# EAGLE library part C64_CARTDRIGE (library commodore)
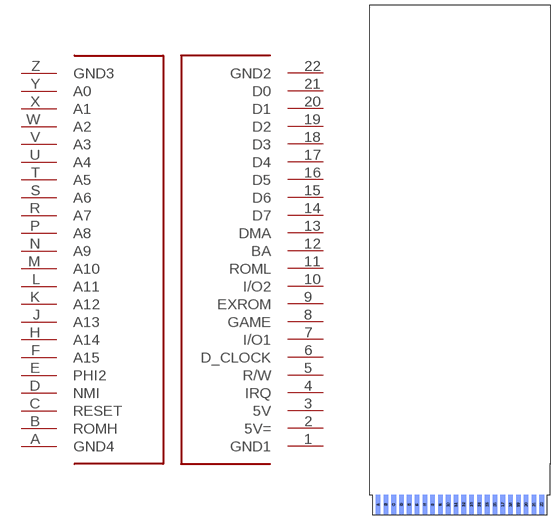
[diagram p35: symbol with the pads of C64_CARTRIDGE; footprint C64_CARTRIDGE]

Designator prefix -

## C64_CARTDRIGE  [C64_CARTRIDGE]
1  GND1
2  5V=
3  5V
4  IRQ
5  R/W
6  D_CLOCK
7  I/O1
8  GAME
9  EXROM
10  I/O2
11  ROML
12  BA
13  DMA
14  D7
15  D6
16  D5
17  D4
18  D3
19  D2
20  D1
21  D0
22  GND2
A  GND4
B  ROMH
C  RESET
D  NMI
E  PHI2
F  A15
H  A14
J  A13
K  A12
L  A11
M  A10
N  A9
P  A8
R  A7
S  A6
T  A5
U  A4
V  A3
W  A2
X  A1
Y  A0
Z  GND3

## Footprint C64_CARTRIDGE (pad centres in mm)
smd 1.524 x 6.477: 1 -52.07,-24.13; 2 -49.53,-24.13; 3 -46.99,-24.13; 4 -44.45,-24.13; 5 -41.91,-24.13; 6 -39.37,-24.13; 7 -36.83,-24.13; 8 -34.29,-24.13; 9 -31.75,-24.13; 10 -29.21,-24.13; 11 -26.67,-24.13; 12 -24.13,-24.13; 13 -21.59,-24.13; 14 -19.05,-24.13; 15 -16.51,-24.13; 16 -13.97,-24.13; 17 -11.43,-24.13; 18 -8.89,-24.13; 19 -6.35,-24.13; 20 -3.81,-24.13; 21 -1.27,-24.13; 22 1.27,-24.13
smd 1.524 x 6.477 bottom: A -52.07,-24.13; B -49.53,-24.13; C -46.99,-24.13; D -44.45,-24.13; E -41.91,-24.13; F -39.37,-24.13; H -36.83,-24.13; J -34.29,-24.13; K -31.75,-24.13; L -29.21,-24.13; M -26.67,-24.13; N -24.13,-24.13; P -21.59,-24.13; R -19.05,-24.13; S -16.51,-24.13; T -13.97,-24.13; U -11.43,-24.13; V -8.89,-24.13; W -6.35,-24.13; X -3.81,-24.13; Y -1.27,-24.13; Z 1.27,-24.13